# EAGLE library part BBC_EDGE (library microbit)
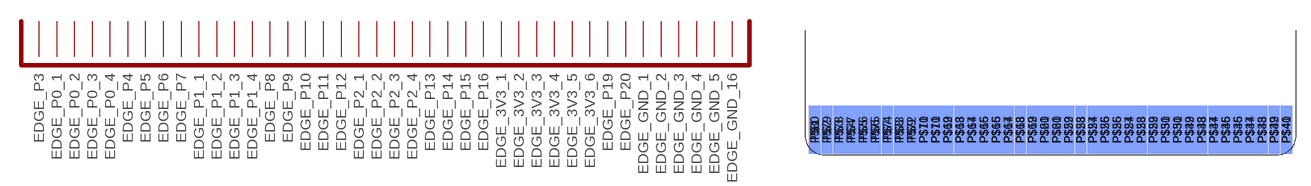
[diagram p2: symbol with the pads of BBC_EDGE; footprint BBC_EDGE]

Designator prefix -

## BBC_EDGE  [BBC_EDGE]
P$1  EDGE_P3
P$2  EDGE_P0_1
P$3  EDGE_P0_2
P$4  EDGE_P0_3
P$5  EDGE_P0_4
P$6  EDGE_P4
P$7  EDGE_P5
P$8  EDGE_P6
P$9  EDGE_P7
P$10  EDGE_P1_1
P$11  EDGE_P1_2
P$12  EDGE_P1_3
P$13  EDGE_P1_4
P$14  EDGE_P8
P$15  EDGE_P9
P$16  EDGE_P10
P$17  EDGE_P11
P$18  EDGE_P12
P$19  EDGE_P2_1
P$20  EDGE_P2_2
P$21  EDGE_P2_3
P$22  EDGE_P2_4
P$23  EDGE_P13
P$24  EDGE_P14
P$25  EDGE_P15
P$26  EDGE_P16
P$27  EDGE_3V3_1
P$28  EDGE_3V3_2
P$29  EDGE_3V3_3
P$30  EDGE_3V3_4
P$31  EDGE_3V3_5
P$32  EDGE_3V3_6
P$33  EDGE_P19
P$34  EDGE_P20
P$35  EDGE_GND_1
P$36  EDGE_GND_2
P$37  EDGE_GND_3
P$38  EDGE_GND_4
P$39  EDGE_GND_5
P$40  EDGE_GND_16
P$41  EDGE_P3
P$42  EDGE_P0_1
P$43  EDGE_P0_2
P$44  EDGE_P0_3
P$45  EDGE_P0_4
P$46  EDGE_P4
P$47  EDGE_P5
P$48  EDGE_P6
P$49  EDGE_P7
P$50  EDGE_P1_1
P$51  EDGE_P1_2
P$52  EDGE_P1_3
P$53  EDGE_P1_4
P$54  EDGE_P8
P$55  EDGE_P9
P$56  EDGE_P10
P$57  EDGE_P11
P$58  EDGE_P12
P$59  EDGE_P2_1
P$60  EDGE_P2_2
P$61  EDGE_P2_3
P$62  EDGE_P2_4
P$63  EDGE_P13
P$64  EDGE_P14
P$65  EDGE_P15
P$66  EDGE_P16
P$67  EDGE_3V3_1
P$68  EDGE_3V3_2
P$69  EDGE_3V3_3
P$70  EDGE_3V3_4
P$71  EDGE_3V3_5
P$72  EDGE_3V3_6
P$73  EDGE_P19
P$74  EDGE_P20
P$75  EDGE_GND_1
P$76  EDGE_GND_2
P$77  EDGE_GND_3
P$78  EDGE_GND_4
P$79  EDGE_GND_5
P$80  EDGE_GND_16

## Footprint BBC_EDGE (pad centres in mm)
smd 1.2 x 5.08: P$1 -50.215,2.673; P$2 -48.945,2.673; P$3 -47.675,2.673; P$4 -46.405,2.673; P$5 -45.135,2.673; P$6 -43.865,2.673; P$7 -42.595,2.673; P$8 -41.325,2.673; P$9 -40.055,2.673; P$10 -38.785,2.673; P$11 -37.515,2.673; P$12 -36.245,2.673; P$13 -34.975,2.673; P$14 -33.705,2.673; P$15 -32.435,2.673; P$16 -31.165,2.673; P$17 -29.895,2.673; P$18 -28.625,2.673; P$19 -27.355,2.673; P$20 -26.085,2.673; P$21 -24.815,2.673; P$22 -23.545,2.673; P$23 -22.275,2.673; P$24 -21.005,2.673; P$25 -19.735,2.673; P$26 -18.465,2.673; P$27 -17.195,2.673; P$28 -15.925,2.673; P$29 -14.655,2.673; P$30 -13.385,2.673; P$31 -12.115,2.673; P$32 -10.845,2.673; P$33 -9.575,2.673; P$34 -8.305,2.673; P$35 -7.035,2.673; P$36 -5.765,2.673; P$37 -4.495,2.673; P$38 -3.225,2.673; P$39 -1.955,2.673; P$40 -0.685,2.673
smd 1.2 x 5.08 bottom: P$41 -0.685,2.673; P$42 -1.955,2.673; P$43 -3.225,2.673; P$44 -4.495,2.673; P$45 -5.765,2.673; P$46 -7.035,2.673; P$47 -8.305,2.673; P$48 -9.575,2.673; P$49 -10.845,2.673; P$50 -12.115,2.673; P$51 -13.385,2.673; P$52 -14.655,2.673; P$53 -15.925,2.673; P$54 -17.195,2.673; P$55 -18.465,2.673; P$56 -19.735,2.673; P$57 -21.005,2.673; P$58 -22.275,2.673; P$59 -23.545,2.673; P$60 -24.815,2.673; P$61 -26.085,2.673; P$62 -27.355,2.673; P$63 -28.625,2.673; P$64 -29.895,2.673; P$65 -31.165,2.673; P$66 -32.435,2.673; P$67 -33.705,2.673; P$68 -34.975,2.673; P$69 -36.245,2.673; P$70 -37.515,2.673; P$71 -38.785,2.673; P$72 -40.055,2.673; P$73 -41.325,2.673; P$74 -42.595,2.673; P$75 -43.865,2.673; P$76 -45.135,2.673; P$77 -46.405,2.673; P$78 -47.675,2.673; P$79 -48.945,2.673; P$80 -50.215,2.673